# Altium footprint library ece components.PcbLib: 102 footprints (part 7 of 7)
Each footprint in its own frame and in the unit in brackets; x right, y up, seen from the top. Pads: shape width x height; smd on the part's side, far side on the other; paste and mask are expansions set on the pad; w line width, h text height; cw(c..) or ccw(c..) is an arc to the next point about the centre after c.
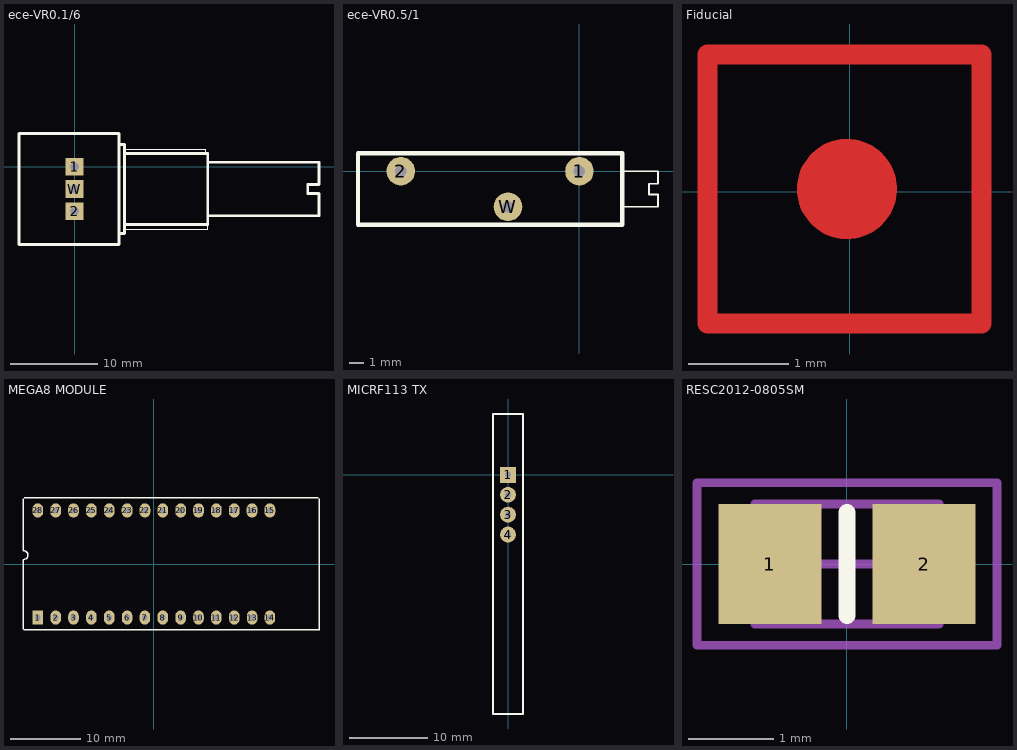
[diagram p6: the footprints below, top view; thin cyan lines are the x and y axes]

## ece-VR0.1/6 [mil] "Variable Resistor"
pads (3):
  rect 80x80 hole 40: 1(0,0) 2(0,-200) W(0,-100)
Top Overlay:
  lines w5: 230,-280 600,-280 600,-260 ; 230,80 590,80 590,60
  lines w12: 200,-300 225,-300 225,100 200,100 ; 230,-260 600,-260 600,60 230,60 ; 600,-220 1100,-220 1100,-120 1050,-120 1050,-80 1100,-80 1100,20 600,20 ; -250,-350 200,-350 200,150 -250,150 -250,-350

## ece-VR0.5/1 [mil] "Variable Resistor"
pads (3):
  round 80 hole 32: 1(0,0) 2(-500,0) W(-200,-100)
Top Overlay:
  lines w5: 120,-100 220,-100 220,-65 195,-65 195,-35 220,-35 220,0 120,0
  lines w12: -620,-150 120,-150 120,50 -620,50 -620,-150

## Fiducial [mm]
Top Layer:
  circle w0.5: c-0.025,0.025 r0.25
  lines w0.2: 1.295,-1.321 -1.422,-1.321 -1.422,1.372 1.321,1.372 ; 1.321,-1.321 1.321,1.346
Top Solder:
  circle w0.5: c-0.025,0.025 r0.25
  rectangle: -1.525,-1.475 1.475,1.525

## MEGA8 MODULE [mm]
pads (28):
  rect 1.5x2.032 hole 0.8: 1(-16.51,-7.62)
  oval 1.5x2.032 hole 0.8: 2(-13.97,-7.62) 3(-11.43,-7.62) 4(-8.89,-7.62) 5(-6.35,-7.62) 6(-3.81,-7.62) 7(-1.27,-7.62) 8(1.27,-7.62) 9(3.81,-7.62) 10(6.35,-7.62) 11(8.89,-7.62) 12(11.43,-7.62) 13(13.97,-7.62) 14(16.51,-7.62)
  oval 1.524x2.032 hole 0.8: 15(16.51,7.62) 16(13.97,7.62) 17(11.43,7.62) 18(8.89,7.62) 19(6.35,7.62) 20(3.81,7.62) 21(1.27,7.62) 22(-1.27,7.62) 23(-3.81,7.62) 24(-6.35,7.62) 25(-8.89,7.62) 26(-11.43,7.62) 27(-13.97,7.62) 28(-16.51,7.62)
Top Overlay:
  lines w0.2: -18.55,-9.271 -18.55,0.635 ccw(c-18.55,1.27) -18.55,1.905 -18.55,9.271 ; -18.542,-9.381 23.495,-9.381 ; -18.415,9.398 23.368,9.398 ; 23.495,-9.398 23.495,9.271

## MICRF113 TX [mil]
pads (4):
  rect 80x80 hole 32: 1(0,0)
  round 80 hole 32: 2(0,-100) 3(0,-200) 4(0,-300)
Top Overlay:
  lines w10: -75,-1200 75,-1200 75,305 -75,305 -75,-1200

## RESC2012-0805SM [mm] "Chip Resistor, Body 2.0x1.3mm, IPC Medium Density"
height 0.017
pads (2):
  rect 1.2x1.4 smd: 1(-0.9,0) 2(0.9,0)
Top Overlay:
  lines w0.2: 0,-0.6 0,0.6
Mechanical 13:
  lines w0.1: -1.075,-0.7 1.075,-0.7 1.075,0.7 -1.075,0.7 -1.075,-0.7
Mechanical 15:
  lines w0.1: -0.5,0 0.5,0 ; 0,-0.5 0,0.5 ; -1.75,-0.95 1.75,-0.95 1.75,0.95 -1.75,0.95 -1.75,-0.95
3D body "RES_0805.STEP": height 0.5, standoff 0, extent -1,-0.625 1,0.625